# Altium schematic symbol library EP_GUIDE_schlib.SchLib: 1 symbol
Pins are listed as number, name and electrical type; pins without a type are passive.

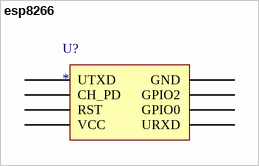
[diagram p0: symbol esp8266]

## esp8266
designator U?
pins: ?1 UTXD, ?2 CH_PD, ?3 RST, ?4 VCC, ?5 GND, ?6 GPIO2, ?7 GPIO0, ?8 URXD